# Altium footprint library ButtonPTS636SM43SMTRLFS.PcbLib: 1 footprints
Each footprint in its own frame and in the unit in brackets; x right, y up, seen from the top. Pads: shape width x height; smd on the part's side, far side on the other; paste and mask are expansions set on the pad; w line width, h text height; cw(c..) or ccw(c..) is an arc to the next point about the centre after c.
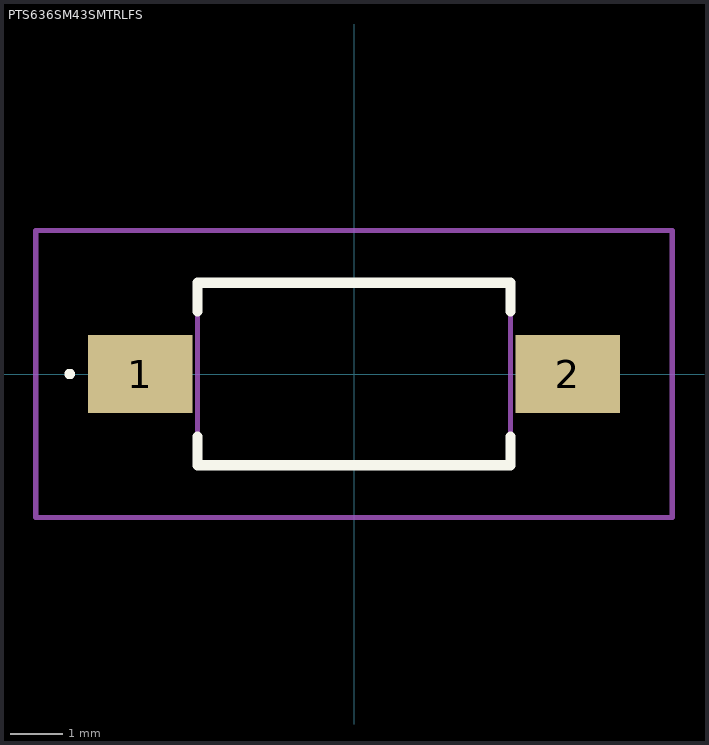
[diagram p0: the footprint, top view; thin cyan lines are the x and y axes]

## PTS636SM43SMTRLFS [mm]
pads (2):
  rect 2x1.5 smd: 1(-4.1,0) 2(4.1,0)
Top Overlay:
  lines w0.1: -5.5,0 cw(c-5.45,0) -5.4,0 ; -5.5,0 -5.5,0 ; -5.5,0 ccw(c-5.45,0) -5.4,0 ; -5.4,0 -5.4,0
  lines w0.2: -3,-1.2 -3,-1.75 3,-1.75 3,-1.2 ; -3,1.2 -3,1.75 3,1.75 3,1.2
Mechanical 15:
  lines w0.1: -3,-1.75 3,-1.75 3,1.75 -3,1.75 -3,-1.75
Mechanical 20:
  lines w0.1: -6.1,-2.75 6.1,-2.75 6.1,2.75 -6.1,2.75 -6.1,-2.75